# Altium footprint library LGA14.PcbLib: 1 footprints
Each footprint in its own frame and in the unit in brackets; x right, y up, seen from the top. Pads: shape width x height; smd on the part's side, far side on the other; paste and mask are expansions set on the pad; w line width, h text height; cw(c..) or ccw(c..) is an arc to the next point about the centre after c.
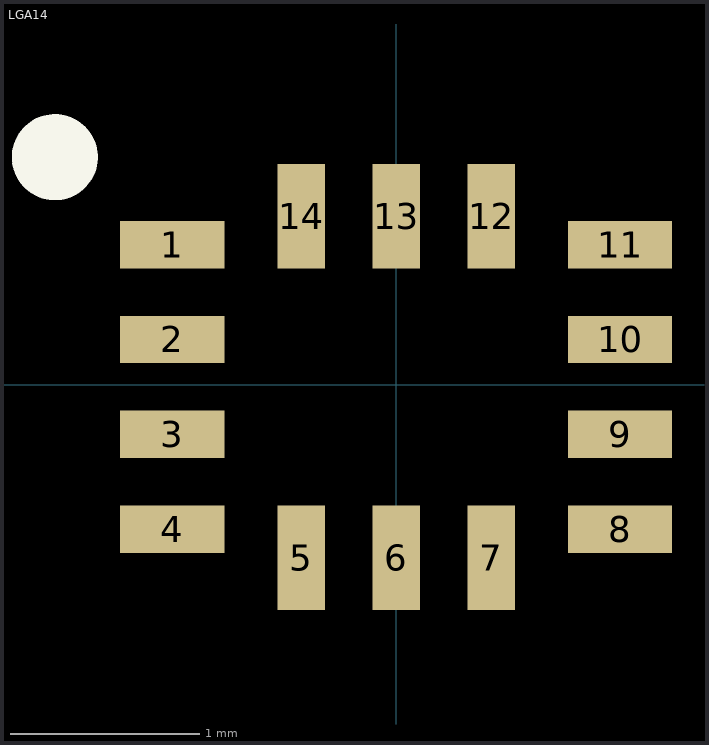
[diagram p0: the footprint, top view; thin cyan lines are the x and y axes]

## LGA14 [mm]
pads (14):
  rect 0.55x0.25 smd mask+0.065: 1(-1.18,0.739) 2(-1.18,0.239) 3(-1.18,-0.261) 4(-1.18,-0.761) 8(1.18,-0.761) 9(1.18,-0.261) 10(1.18,0.239) 11(1.18,0.739)
  rect 0.25x0.55 smd mask+0.065: 5(-0.5,-0.911) 6(0,-0.911) 7(0.5,-0.911) 12(0.5,0.889) 13(0,0.889) 14(-0.5,0.889)
Top Overlay:
  circle w0.254: c-1.8,1.2 r0.1
3D body: height 0.86, standoff 0, extent -1.5,-1.2 1.5,1.2